# Altium footprint library Bollbot_V100.PcbLib: 34 footprints (part 2 of 3)
Each footprint in its own frame and in the unit in brackets; x right, y up, seen from the top. Pads: shape width x height; smd on the part's side, far side on the other; paste and mask are expansions set on the pad; w line width, h text height; cw(c..) or ccw(c..) is an arc to the next point about the centre after c.
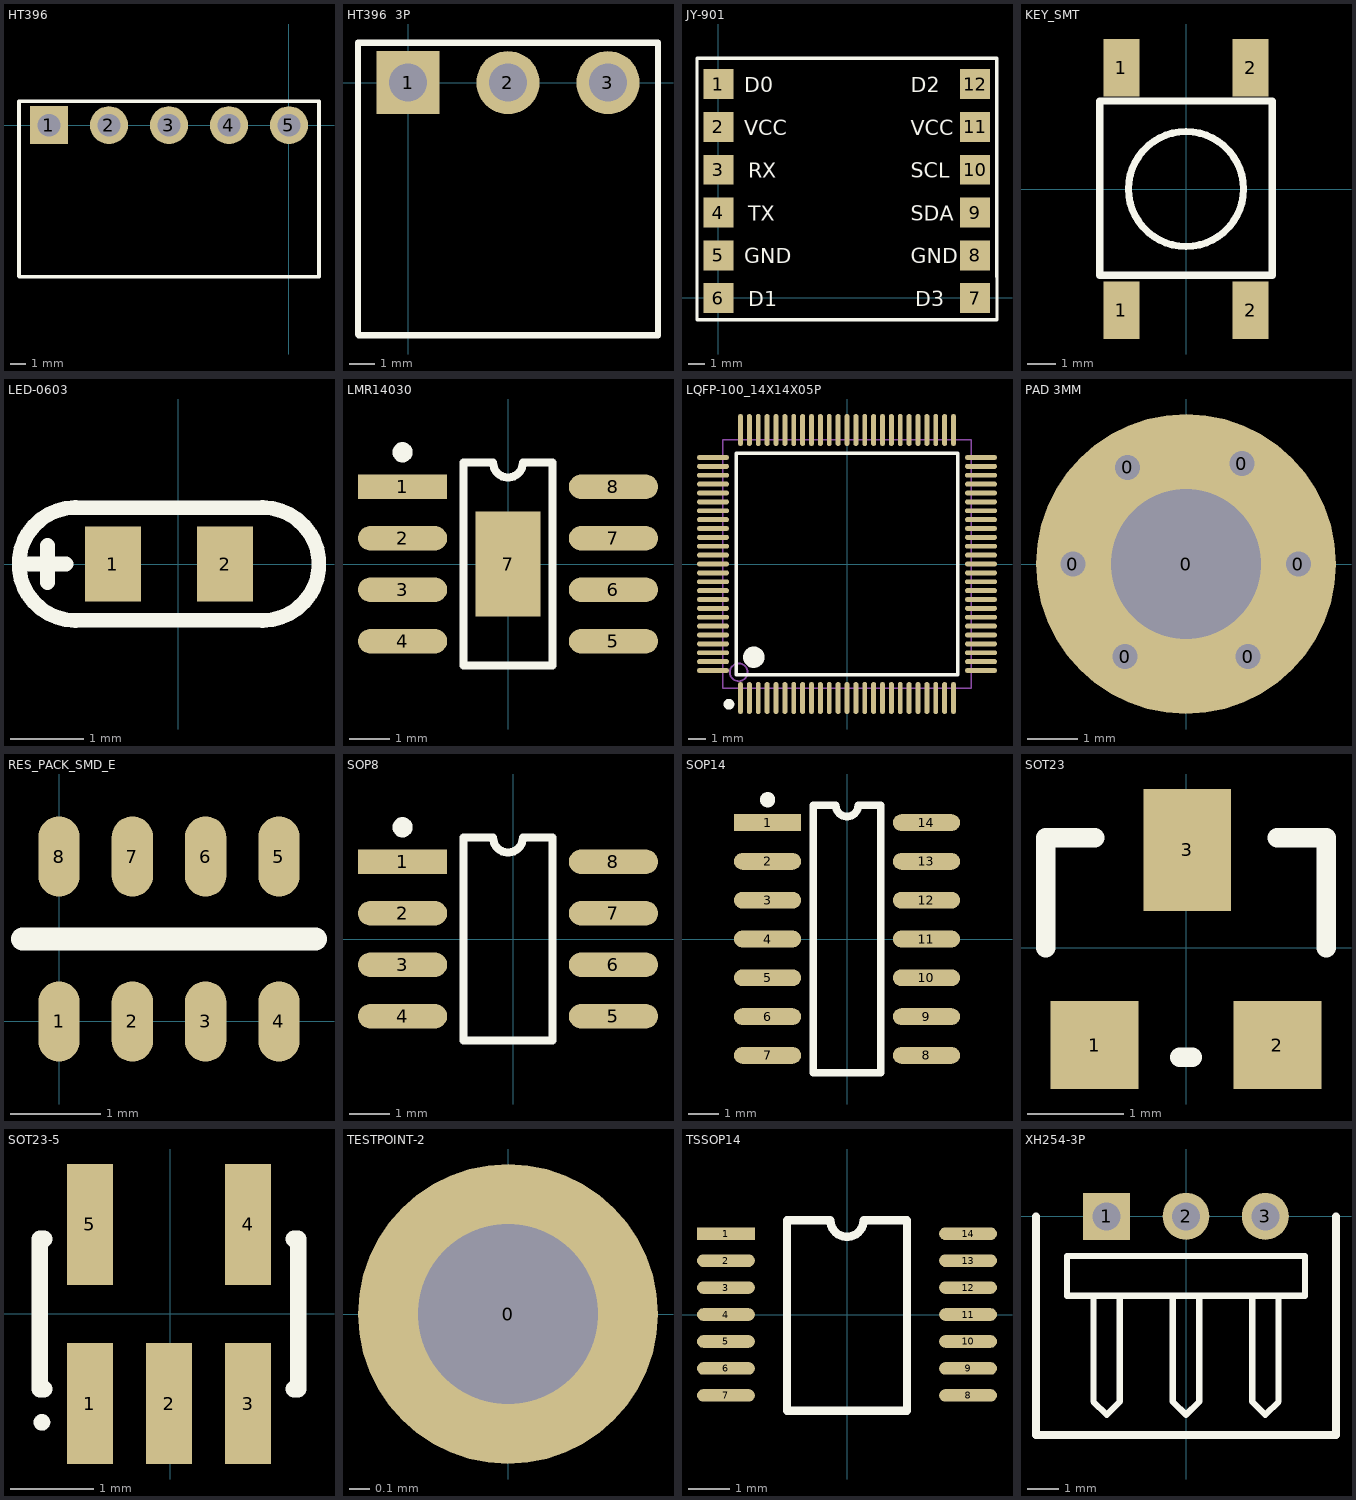
[diagram p1: the footprints below, top view; thin cyan lines are the x and y axes]

## HT396 [mm]
height 10.16
pads (5):
  rect 2.5x2.5 hole 1.5: 1(-15.84,0)
  round 2.5 hole 1.5: 2(-11.88,0) 3(-7.92,0) 4(-3.96,0) 5(0,0)
Top Overlay:
  lines w0.254: -17.82,1.575 -17.82,-9.968 -17.788,-10 1.981,-10 ; -17.805,1.575 1.981,1.575 ; 1.98,-10 1.98,1.575

## HT396  3P [mm]
height 10.16
pads (3):
  rect 2.5x2.5 hole 1.5: 1(0,0)
  round 2.5 hole 1.5: 2(3.96,0) 3(7.92,0)
Top Overlay:
  lines w0.254: -1.98,1.575 -1.98,-9.968 -1.948,-10 9.876,-10 ; -1.965,1.575 9.876,1.575 ; 9.9,-10 9.9,1.575

## JY-901 [mil]
height 400
pads (12):
  rect 70x70 smd: 1(0.63,499.63) 2(0.63,399.63) 3(0.63,299.63) 4(0.63,199.63) 5(0.63,99.63) 6(0.63,-0.37) 7(600.63,-0.37) 8(600.63,99.63) 9(600.63,199.63) 10(600.63,299.63) 11(600.63,399.63) 12(600.63,499.63)
Top Overlay:
  lines w7.87: -49.37,49.63 -49.37,449.63 ; 650.63,449.63 650.63,49.63 651.63,49.63
  lines w8: -49.37,49.63 -49.37,-51.37 651.63,-51.37 651.63,49.63 ; -49.37,449.63 -49.37,560.63 650.63,560.63 650.63,449.63
  text "VCC" at 60.63,380.63 h35
  text "VCC" at 450.63,380.63 h35
  text "GND" at 60.63,80.63 h35
  text "GND" at 450.63,80.63 h35
  text "RX" at 70.63,280.63 h35
  text "TX" at 70.63,180.63 h35
  text "SDA" at 450.63,180.63 h35
  text "SCL" at 450.63,280.63 h35
  text "D0" at 60.63,480.63 h35
  text "D1" at 70.63,-19.37 h35
  text "D2" at 450.63,480.63 h35
  text "D3" at 460.63,-19.37 h35

## KEY_SMT [mil]
height 400
pads (4):
  rect 50x80 smd: 1(-90,-168.75) 1(-90,168.75) 2(90,-168.75) 2(90,168.75)
Top Overlay:
  circle w10: c0,0 r80
  lines w10: -120,-120 120,-120 120,122.5 -120,122.5 -120,-120
3D body "User_Library-TACT_SMD_6X6.step": height 196.85, standoff 0, extent -118.11,-196.85 118.11,196.85

## LED-0603 [mil]
height 400
pads (2):
  rect 30x40 smd: 1(-35,0) 2(25,0)
Top Overlay:
  lines w7.87: -55,-30.14 cw(c-55,0) -55,30.14 ; -55,-30 45,-30 ; -55,30 45,30 ; 45,-30.14 ccw(c45,0) 45,30.14
  lines w8: -80,0 -60,0 ; -70,-10 -70,10
3D body "User Library-led_0603LED0603 green.STEP": height 23.62, standoff 0, extent -36.89,-15.75 26.9,15.75

## LMR14030 [mm]
pads (9):
  rect 2.2x0.6 smd: 1(-2.6,1.905)
  oval 2.2x0.6 smd: 2(-2.6,0.635) 3(-2.6,-0.635) 4(-2.6,-1.905) 5(2.6,-1.905) 6(2.6,-0.635) 7(2.6,0.635) 8(2.6,1.905)
  rect 1.6x2.6 smd: 7(0,0)
Top Overlay:
  circle w0.25: c-2.6,2.755 r0.125
  lines w0.2: -1.1,-2.5 -1.1,2.5 -0.367,2.5 ccw(c0,2.5) 0.367,2.5 1.1,2.5 1.1,-2.5 -1.1,-2.5
3D body "SO-8.STEP": height 1.7, standoff 0, extent -2.874,-2.451 3.126,2.45

## LQFP-100_14X14X05P [mm]
pads (100):
  oval 0.28x1.8 smd mask+0.051: 1(-6,-7.55) 2(-5.5,-7.55) 3(-5,-7.55) 4(-4.5,-7.55) 5(-4,-7.55) 6(-3.5,-7.55) 7(-3,-7.55) 8(-2.5,-7.55) 9(-2,-7.55) 10(-1.5,-7.55) 11(-1,-7.55) 12(-0.5,-7.55) 13(0,-7.55) 14(0.5,-7.55) 15(1,-7.55) 16(1.5,-7.55) 17(2,-7.55) 18(2.5,-7.55) 19(3,-7.55) 20(3.5,-7.55) 21(4,-7.55) 22(4.5,-7.55) 23(5,-7.55) 24(5.5,-7.55) 25(6,-7.55) 51(6,7.55) 52(5.5,7.55) 53(5,7.55) 54(4.5,7.55) 55(4,7.55) 56(3.5,7.55) 57(3,7.55) 58(2.5,7.55) 59(2,7.55) 60(1.5,7.55) 61(1,7.55) 62(0.5,7.55) 63(0,7.55) 64(-0.5,7.55) 65(-1,7.55) 66(-1.5,7.55) 67(-2,7.55) 68(-2.5,7.55) 69(-3,7.55) 70(-3.5,7.55) 71(-4,7.55) 72(-4.5,7.55) 73(-5,7.55) 74(-5.5,7.55) 75(-6,7.55)
  oval 1.8x0.28 smd mask+0.051: 26(7.55,-6) 27(7.55,-5.5) 28(7.55,-5) 29(7.55,-4.5) 30(7.55,-4) 31(7.55,-3.5) 32(7.55,-3) 33(7.55,-2.5) 34(7.55,-2) 35(7.55,-1.5) 36(7.55,-1) 37(7.55,-0.5) 38(7.55,0) 39(7.55,0.5) 40(7.55,1) 41(7.55,1.5) 42(7.55,2) 43(7.55,2.5) 44(7.55,3) 45(7.55,3.5) 46(7.55,4) 47(7.55,4.5) 48(7.55,5) 49(7.55,5.5) 50(7.55,6) 76(-7.55,6) 77(-7.55,5.5) 78(-7.55,5) 79(-7.55,4.5) 80(-7.55,4) 81(-7.55,3.5) 82(-7.55,3) 83(-7.55,2.5) 84(-7.55,2) 85(-7.55,1.5) 86(-7.55,1) 87(-7.55,0.5) 88(-7.55,0) 89(-7.55,-0.5) 90(-7.55,-1) 91(-7.55,-1.5) 92(-7.55,-2) 93(-7.55,-2.5) 94(-7.55,-3) 95(-7.55,-3.5) 96(-7.55,-4) 97(-7.55,-4.5) 98(-7.55,-5) 99(-7.55,-5.5) 100(-7.55,-6)
Top Overlay:
  circle w0.3: c-6.65,-7.9 r0.15
  circle w0.6: c-5.25,-5.25 r0.3
  lines w0.2: -6.25,-6.25 6.25,-6.25 6.25,6.25 -6.25,6.25 -6.25,-6.25
Mechanical 13:
  circle w0.1: c-6.1,-6.1 r0.5
  lines w0.1: -7,-7 7,-7 7,7 -7,7 -7,-7
3D body "User Library-LQFP100_Grid_0_5.STEP": height 1.6, standoff 0, extent -8,-8 8,8

## PAD 3MM [mm]
height 10.16
pads (7):
  round 1 hole 0.5: 0(-2.261,0) 0(-1.219,-1.854) 0(-1.168,1.93) 0(1.118,2.007) 0(1.245,-1.854) 0(2.25,0)
  round 6 hole 3: 0(0,0)

## RES_PACK_SMD_E [mil]
height 104.33
pads (8):
  oval 18x35 smd: 1(0,0) 2(32,0) 3(64,0) 4(96,0) 5(96,72) 6(64,72) 7(32,72) 8(0,72)
Top Overlay:
  lines w10: -16,36 112,36
3D body "SW3dPS-RN164P.STEP": height 21.65, standoff 0, extent -14.99,5.51 111,68.5

## SOP8 [mm]
height 2.65
pads (8):
  rect 2.2x0.6 smd: 1(-2.727,1.905)
  oval 2.2x0.6 smd: 2(-2.727,0.635) 3(-2.727,-0.635) 4(-2.727,-1.905) 5(2.473,-1.905) 6(2.473,-0.635) 7(2.473,0.635) 8(2.473,1.905)
Top Overlay:
  circle w0.25: c-2.727,2.755 r0.125
  lines w0.2: -1.227,-2.5 0.973,-2.5 0.973,2.5 0.24,2.5 cw(c-0.127,2.5) -0.494,2.5 -1.227,2.5 -1.227,-2.5
3D body "SO-8.STEP": height 1.7, standoff 0, extent -3.001,-2.45 2.999,2.45

## SOP14 [mm]
height 5.08
pads (14):
  rect 2.2x0.55 smd: 1(-2.6,3.81)
  oval 2.2x0.55 smd: 2(-2.6,2.54) 3(-2.6,1.27) 4(-2.6,0) 5(-2.6,-1.27) 6(-2.6,-2.54) 7(-2.6,-3.81) 8(2.6,-3.81) 9(2.6,-2.54) 10(2.6,-1.27) 11(2.6,0) 12(2.6,1.27) 13(2.6,2.54) 14(2.6,3.81)
Top Overlay:
  circle w0.25: c-2.6,4.558 r0.125
  lines w0.25: -1.1,-4.375 1.1,-4.375 1.1,4.375 0.367,4.375 cw(c0,4.375) -0.367,4.375 -1.1,4.375 -1.1,-4.375
3D body "SOP14.STEP": height 1.61, standoff 0, extent -3.1,-4.35 3.1,4.35

## SOT23 [mil]
height 104.33
pads (3):
  rect 36x36 smd: 1(-37.5,-40) 2(37.5,-40)
  rect 36x50 smd: 3(0.5,40)
Top Overlay:
  lines w8: -57.5,0 -57.5,45 -37.5,45 ; -2.5,-45 2.5,-45 ; 37.5,45 57.5,45 57.5,0
3D body "SW3DPS-SOT-23-DEFAULT1.step": height 41.65, standoff -1.65, extent -59.05,-49.21 59.06,49.22

## SOT23-5 [mm]
height 1
pads (5):
  rect 0.55x1.45 smd: 1(-0.966,-1.076) 2(-0.016,-1.076) 3(0.934,-1.076) 4(0.934,1.074) 5(-0.966,1.074)
Top Overlay:
  circle w0.1: c-1.541,-1.301 r0.05
  lines w0.2: -1.516,-0.901 -1.566,-0.901 -1.566,0.899 -1.516,0.899 ; 1.484,-0.901 1.534,-0.901 1.534,0.899 1.484,0.899
3D body "User Library-SOT23-5-2.STEP": height 1.45, standoff 0, extent -1.45,-1.4 1.45,1.4

## TESTPOINT-2 [mm]
height 10.16
pads (1):
  round 1.5 hole 0.9: 0(0,0)
3D body "User_Library-TEST_POINT_GRN_Keystone_5116.step": height 4.89, standoff -3.07, extent -1.27,-1.27 1.27,1.27

## TSSOP14 [mil]
height 400
pads (14):
  rect 55x12 smd: 1(-115,76.77)
  oval 55x12 smd: 2(-115,51.18) 3(-115,25.59) 4(-115,0) 5(-115,-25.59) 6(-115,-51.18) 7(-115,-76.77) 8(115,-76.77) 9(115,-51.18) 10(115,-25.59) 11(115,0) 12(115,25.59) 13(115,51.18) 14(115,76.77)
Top Overlay:
  lines w8: -57,-91.23 57,-91.23 57,89.77 15.75,89.57 cw(c0,89.57) -15.75,89.57 -57,89.77 -57,-91.23
3D body "SW3dPS-TSSOP14-1.STEP": height 43.31, standoff 0, extent -125.98,-98.43 125.99,98.42

## XH254-3P [mm] "Connector; Header; 5 Position"
height 10.16
pads (3):
  rect 1.5x1.5 hole 0.9: 1(-2.54,0)
  round 1.5 hole 0.9: 2(0,0) 3(2.54,0)
Top Overlay:
  lines w0.2: -2.963,-2.54 -2.963,-5.927 -2.54,-6.35 -2.117,-5.927 -2.117,-2.54 ; -0.423,-2.54 -0.423,-5.927 0,-6.35 0.423,-5.927 0.423,-2.54 ; 2.117,-2.54 2.117,-5.927 2.54,-6.35 2.963,-5.927 2.963,-2.54 ; -3.81,-2.54 3.81,-2.54 3.81,-1.27 -3.81,-1.27 -3.81,-2.54
  lines w0.254: -4.8,0 -4.8,-7 4.8,-7 4.8,0